# Altium footprint library Diod.PcbLib: 392 footprints (part 7 of 25)
Each footprint in its own frame and in the unit in brackets; x right, y up, seen from the top. Pads: shape width x height; smd on the part's side, far side on the other; paste and mask are expansions set on the pad; w line width, h text height; cw(c..) or ccw(c..) is an arc to the next point about the centre after c.
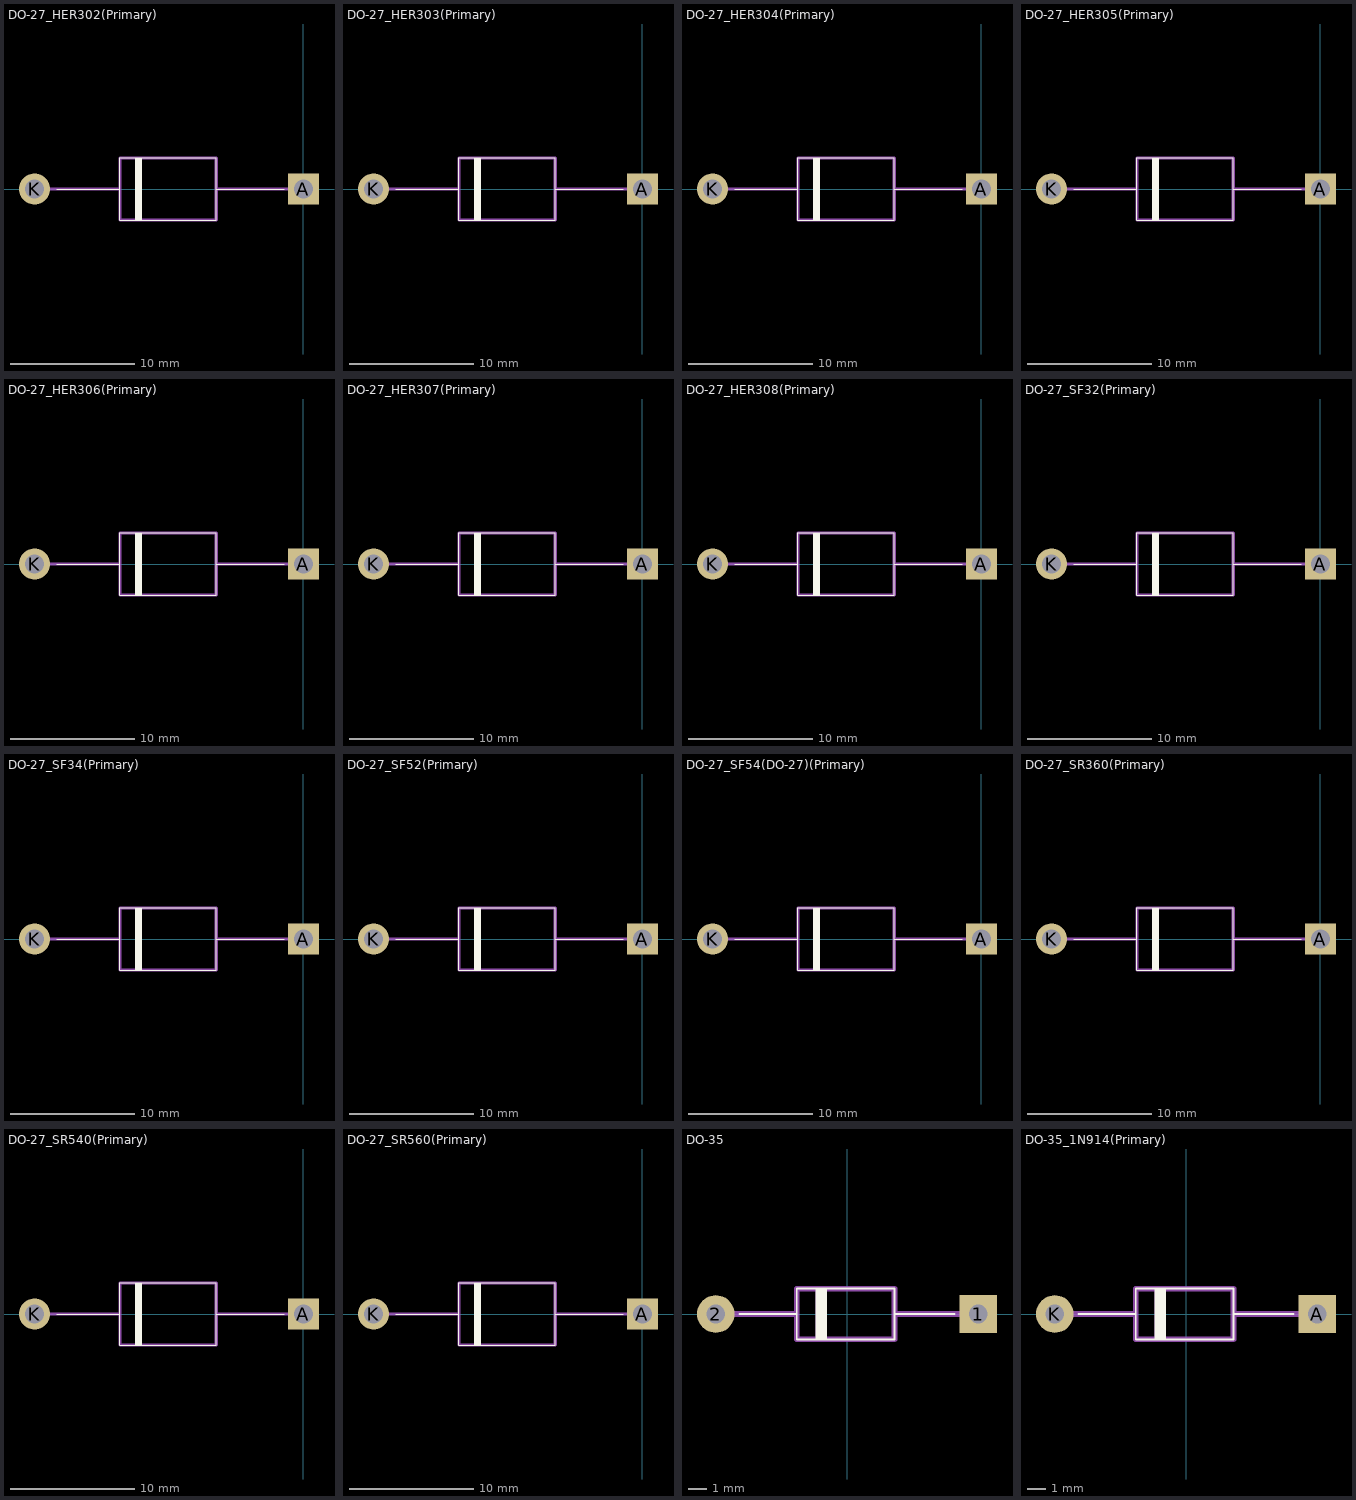
[diagram p6: the footprints below, top view; thin cyan lines are the x and y axes]

## DO-27_HER302(Primary) [mm]
pads (2):
  rect 2.5x2.5 hole 1.5: A(0,0)
  round 2.5 hole 1.5: K(-21.6,0)
Top Overlay:
  region: -13.5,2.5 -13.5,-2.5 -13,-2.5 -13,2.5
  lines w0.1: -19.812,0 -14.75,0 ; -7,0 -1.524,0 ; -14.75,0 -14.75,2.5 -7,2.5 -7,-2.5 -14.75,-2.5 -14.75,0
Mechanical 1:
  region: -13.5,2.5 -13.5,-2.5 -13,-2.5 -13,2.5
  lines w0.25: -21.6,0 -14.75,0 ; -7,0 0,0 ; -14.75,0 -14.75,2.5 -7,2.5 -7,-2.5 -14.75,-2.5 -14.75,0

## DO-27_HER303(Primary) [mm]
pads (2):
  rect 2.5x2.5 hole 1.5: A(0,0)
  round 2.5 hole 1.5: K(-21.6,0)
Top Overlay:
  region: -13.5,2.5 -13.5,-2.5 -13,-2.5 -13,2.5
  lines w0.1: -19.812,0 -14.75,0 ; -7,0 -1.524,0 ; -14.75,0 -14.75,2.5 -7,2.5 -7,-2.5 -14.75,-2.5 -14.75,0
Mechanical 1:
  region: -13.5,2.5 -13.5,-2.5 -13,-2.5 -13,2.5
  lines w0.25: -21.6,0 -14.75,0 ; -7,0 0,0 ; -14.75,0 -14.75,2.5 -7,2.5 -7,-2.5 -14.75,-2.5 -14.75,0

## DO-27_HER304(Primary) [mm]
pads (2):
  rect 2.5x2.5 hole 1.5: A(0,0)
  round 2.5 hole 1.5: K(-21.6,0)
Top Overlay:
  region: -13.5,2.5 -13.5,-2.5 -13,-2.5 -13,2.5
  lines w0.1: -19.812,0 -14.75,0 ; -7,0 -1.524,0 ; -14.75,0 -14.75,2.5 -7,2.5 -7,-2.5 -14.75,-2.5 -14.75,0
Mechanical 1:
  region: -13.5,2.5 -13.5,-2.5 -13,-2.5 -13,2.5
  lines w0.25: -21.6,0 -14.75,0 ; -7,0 0,0 ; -14.75,0 -14.75,2.5 -7,2.5 -7,-2.5 -14.75,-2.5 -14.75,0

## DO-27_HER305(Primary) [mm]
pads (2):
  rect 2.5x2.5 hole 1.5: A(0,0)
  round 2.5 hole 1.5: K(-21.6,0)
Top Overlay:
  region: -13.5,2.5 -13.5,-2.5 -13,-2.5 -13,2.5
  lines w0.1: -19.812,0 -14.75,0 ; -7,0 -1.524,0 ; -14.75,0 -14.75,2.5 -7,2.5 -7,-2.5 -14.75,-2.5 -14.75,0
Mechanical 1:
  region: -13.5,2.5 -13.5,-2.5 -13,-2.5 -13,2.5
  lines w0.25: -21.6,0 -14.75,0 ; -7,0 0,0 ; -14.75,0 -14.75,2.5 -7,2.5 -7,-2.5 -14.75,-2.5 -14.75,0

## DO-27_HER306(Primary) [mm]
pads (2):
  rect 2.5x2.5 hole 1.5: A(0,0)
  round 2.5 hole 1.5: K(-21.6,0)
Top Overlay:
  region: -13.5,2.5 -13.5,-2.5 -13,-2.5 -13,2.5
  lines w0.1: -19.812,0 -14.75,0 ; -7,0 -1.524,0 ; -14.75,0 -14.75,2.5 -7,2.5 -7,-2.5 -14.75,-2.5 -14.75,0
Mechanical 1:
  region: -13.5,2.5 -13.5,-2.5 -13,-2.5 -13,2.5
  lines w0.25: -21.6,0 -14.75,0 ; -7,0 0,0 ; -14.75,0 -14.75,2.5 -7,2.5 -7,-2.5 -14.75,-2.5 -14.75,0

## DO-27_HER307(Primary) [mm]
pads (2):
  rect 2.5x2.5 hole 1.5: A(0,0)
  round 2.5 hole 1.5: K(-21.6,0)
Top Overlay:
  region: -13.5,2.5 -13.5,-2.5 -13,-2.5 -13,2.5
  lines w0.1: -19.812,0 -14.75,0 ; -7,0 -1.524,0 ; -14.75,0 -14.75,2.5 -7,2.5 -7,-2.5 -14.75,-2.5 -14.75,0
Mechanical 1:
  region: -13.5,2.5 -13.5,-2.5 -13,-2.5 -13,2.5
  lines w0.25: -21.6,0 -14.75,0 ; -7,0 0,0 ; -14.75,0 -14.75,2.5 -7,2.5 -7,-2.5 -14.75,-2.5 -14.75,0

## DO-27_HER308(Primary) [mm]
pads (2):
  rect 2.5x2.5 hole 1.5: A(0,0)
  round 2.5 hole 1.5: K(-21.6,0)
Top Overlay:
  region: -13.5,2.5 -13.5,-2.5 -13,-2.5 -13,2.5
  lines w0.1: -19.812,0 -14.75,0 ; -7,0 -1.524,0 ; -14.75,0 -14.75,2.5 -7,2.5 -7,-2.5 -14.75,-2.5 -14.75,0
Mechanical 1:
  region: -13.5,2.5 -13.5,-2.5 -13,-2.5 -13,2.5
  lines w0.25: -21.6,0 -14.75,0 ; -7,0 0,0 ; -14.75,0 -14.75,2.5 -7,2.5 -7,-2.5 -14.75,-2.5 -14.75,0

## DO-27_SF32(Primary) [mm]
pads (2):
  rect 2.5x2.5 hole 1.5: A(0,0)
  round 2.5 hole 1.5: K(-21.6,0)
Top Overlay:
  region: -13.5,2.5 -13.5,-2.5 -13,-2.5 -13,2.5
  lines w0.1: -19.812,0 -14.75,0 ; -7,0 -1.524,0 ; -14.75,0 -14.75,2.5 -7,2.5 -7,-2.5 -14.75,-2.5 -14.75,0
Mechanical 1:
  region: -13.5,2.5 -13.5,-2.5 -13,-2.5 -13,2.5
  lines w0.25: -21.6,0 -14.75,0 ; -7,0 0,0 ; -14.75,0 -14.75,2.5 -7,2.5 -7,-2.5 -14.75,-2.5 -14.75,0

## DO-27_SF34(Primary) [mm]
pads (2):
  rect 2.5x2.5 hole 1.5: A(0,0)
  round 2.5 hole 1.5: K(-21.6,0)
Top Overlay:
  region: -13.5,2.5 -13.5,-2.5 -13,-2.5 -13,2.5
  lines w0.1: -19.812,0 -14.75,0 ; -7,0 -1.524,0 ; -14.75,0 -14.75,2.5 -7,2.5 -7,-2.5 -14.75,-2.5 -14.75,0
Mechanical 1:
  region: -13.5,2.5 -13.5,-2.5 -13,-2.5 -13,2.5
  lines w0.25: -21.6,0 -14.75,0 ; -7,0 0,0 ; -14.75,0 -14.75,2.5 -7,2.5 -7,-2.5 -14.75,-2.5 -14.75,0

## DO-27_SF52(Primary) [mm]
pads (2):
  rect 2.5x2.5 hole 1.5: A(0,0)
  round 2.5 hole 1.5: K(-21.6,0)
Top Overlay:
  region: -13.5,2.5 -13.5,-2.5 -13,-2.5 -13,2.5
  lines w0.1: -19.812,0 -14.75,0 ; -7,0 -1.524,0 ; -14.75,0 -14.75,2.5 -7,2.5 -7,-2.5 -14.75,-2.5 -14.75,0
Mechanical 1:
  region: -13.5,2.5 -13.5,-2.5 -13,-2.5 -13,2.5
  lines w0.25: -21.6,0 -14.75,0 ; -7,0 0,0 ; -14.75,0 -14.75,2.5 -7,2.5 -7,-2.5 -14.75,-2.5 -14.75,0

## DO-27_SF54(DO-27)(Primary) [mm]
pads (2):
  rect 2.5x2.5 hole 1.5: A(0,0)
  round 2.5 hole 1.5: K(-21.6,0)
Top Overlay:
  region: -13.5,2.5 -13.5,-2.5 -13,-2.5 -13,2.5
  lines w0.1: -19.812,0 -14.75,0 ; -7,0 -1.524,0 ; -14.75,0 -14.75,2.5 -7,2.5 -7,-2.5 -14.75,-2.5 -14.75,0
Mechanical 1:
  region: -13.5,2.5 -13.5,-2.5 -13,-2.5 -13,2.5
  lines w0.25: -21.6,0 -14.75,0 ; -7,0 0,0 ; -14.75,0 -14.75,2.5 -7,2.5 -7,-2.5 -14.75,-2.5 -14.75,0

## DO-27_SR360(Primary) [mm]
pads (2):
  rect 2.5x2.5 hole 1.5: A(0,0)
  round 2.5 hole 1.5: K(-21.6,0)
Top Overlay:
  region: -13.5,2.5 -13.5,-2.5 -13,-2.5 -13,2.5
  lines w0.1: -19.812,0 -14.75,0 ; -7,0 -1.524,0 ; -14.75,0 -14.75,2.5 -7,2.5 -7,-2.5 -14.75,-2.5 -14.75,0
Mechanical 1:
  region: -13.5,2.5 -13.5,-2.5 -13,-2.5 -13,2.5
  lines w0.25: -21.6,0 -14.75,0 ; -7,0 0,0 ; -14.75,0 -14.75,2.5 -7,2.5 -7,-2.5 -14.75,-2.5 -14.75,0

## DO-27_SR540(Primary) [mm]
pads (2):
  rect 2.5x2.5 hole 1.5: A(0,0)
  round 2.5 hole 1.5: K(-21.6,0)
Top Overlay:
  region: -13.5,2.5 -13.5,-2.5 -13,-2.5 -13,2.5
  lines w0.1: -19.812,0 -14.75,0 ; -7,0 -1.524,0 ; -14.75,0 -14.75,2.5 -7,2.5 -7,-2.5 -14.75,-2.5 -14.75,0
Mechanical 1:
  region: -13.5,2.5 -13.5,-2.5 -13,-2.5 -13,2.5
  lines w0.25: -21.6,0 -14.75,0 ; -7,0 0,0 ; -14.75,0 -14.75,2.5 -7,2.5 -7,-2.5 -14.75,-2.5 -14.75,0

## DO-27_SR560(Primary) [mm]
pads (2):
  rect 2.5x2.5 hole 1.5: A(0,0)
  round 2.5 hole 1.5: K(-21.6,0)
Top Overlay:
  region: -13.5,2.5 -13.5,-2.5 -13,-2.5 -13,2.5
  lines w0.1: -19.812,0 -14.75,0 ; -7,0 -1.524,0 ; -14.75,0 -14.75,2.5 -7,2.5 -7,-2.5 -14.75,-2.5 -14.75,0
Mechanical 1:
  region: -13.5,2.5 -13.5,-2.5 -13,-2.5 -13,2.5
  lines w0.25: -21.6,0 -14.75,0 ; -7,0 0,0 ; -14.75,0 -14.75,2.5 -7,2.5 -7,-2.5 -14.75,-2.5 -14.75,0

## DO-35 [mm]
pads (2):
  rect 2x2 hole 1: 1(6.985,0)
  round 2 hole 1: 2(-6.985,0)
Top Overlay:
  region: -1.675,-1.35 -1.075,-1.35 -1.075,1.35 -1.675,1.35
  lines w0.1: -5.715,0 -2.675,0 ; 5.715,0 2.525,0 ; -2.675,0 -2.675,-1.35 2.525,-1.35 2.525,0 ; -2.675,0 -2.675,1.35 2.525,1.35 2.525,0
Mechanical 1:
  region: -1.675,-1.35 -1.075,-1.35 -1.075,1.35 -1.675,1.35
  lines w0.3: -6.985,0 -2.675,0 ; 6.985,0 2.525,0 ; -2.675,0 -2.675,-1.35 2.525,-1.35 2.525,0 ; -2.675,0 -2.675,1.35 2.525,1.35 2.525,0

## DO-35_1N914(Primary) [mm]
pads (2):
  rect 2x2 hole 1: A(6.985,0)
  round 2 hole 1: K(-6.985,0)
Top Overlay:
  region: -1.675,-1.35 -1.075,-1.35 -1.075,1.35 -1.675,1.35
  lines w0.1: -5.715,0 -2.675,0 ; 5.715,0 2.525,0 ; -2.675,0 -2.675,-1.35 2.525,-1.35 2.525,0 ; -2.675,0 -2.675,1.35 2.525,1.35 2.525,0
Mechanical 1:
  region: -1.675,-1.35 -1.075,-1.35 -1.075,1.35 -1.675,1.35
  lines w0.3: -6.985,0 -2.675,0 ; 6.985,0 2.525,0 ; -2.675,0 -2.675,-1.35 2.525,-1.35 2.525,0 ; -2.675,0 -2.675,1.35 2.525,1.35 2.525,0